# Altium schematic symbol library trafo_ster.SchLib: 1 symbol
Pins are listed as number, name and electrical type; pins without a type are passive.

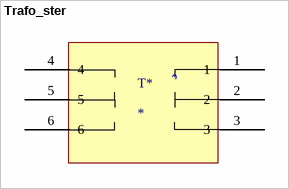
[diagram p0: symbol Trafo_ster]

## Trafo_ster
designator T*
footprint Trafo_ster
pins: 1, 2, 3, 4, 5, 6